# Altium footprint library MyCustomLib.PcbLib: 4 footprints
Each footprint in its own frame and in the unit in brackets; x right, y up, seen from the top. Pads: shape width x height; smd on the part's side, far side on the other; paste and mask are expansions set on the pad; w line width, h text height; cw(c..) or ccw(c..) is an arc to the next point about the centre after c.
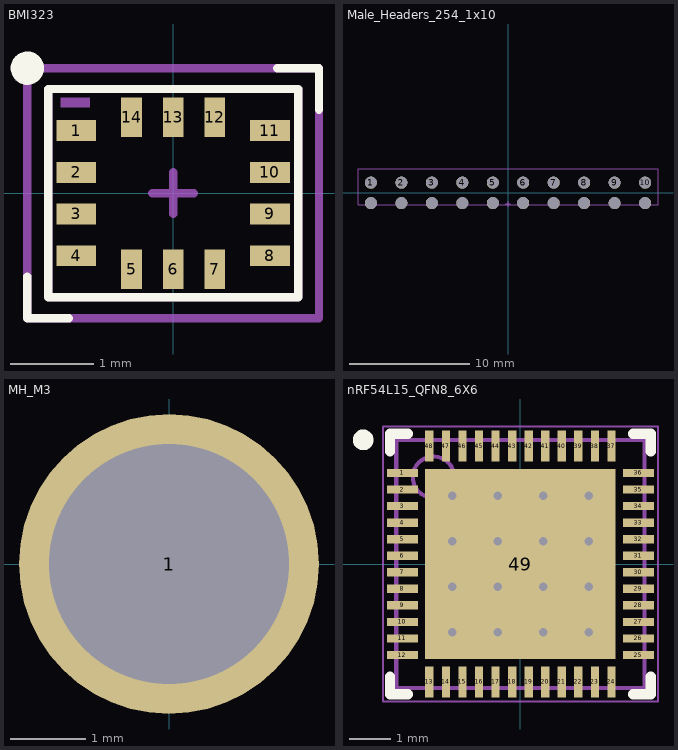
[diagram p0: the footprints below, top view; thin cyan lines are the x and y axes]

## BMI323 [mm]
pads (14):
  rect 0.475x0.25 smd: 1(-1.162,0.75) 2(-1.162,0.25) 3(-1.162,-0.25) 4(-1.162,-0.75) 8(1.162,-0.75) 9(1.162,-0.25) 10(1.162,0.25) 11(1.162,0.75)
  rect 0.25x0.475 smd: 5(-0.5,-0.913) 6(0,-0.913) 7(0.5,-0.913) 12(0.5,0.913) 13(0,0.913) 14(-0.5,0.913)
Top Overlay:
  circle w0.2: c-1.75,1.5 r0.1
  lines w0.1: -1.75,-1 -1.75,-1.5 -1.25,-1.5 ; 1.25,1.5 1.75,1.5 1.75,1 ; -1.5,-1.25 -1.5,1.25 1.5,1.25 1.5,-1.25 -1.5,-1.25
Top Assembly:
  rectangle: -1.35,1.025 -1,1.15
  lines w0.1: -1.5,-1.25 1.5,-1.25 1.5,1.25 -1.5,1.25 -1.5,-1.25
Top Courtyard:
  lines w0.1: -1.75,-1.5 1.75,-1.5 1.75,1.5 -1.75,1.5 -1.75,-1.5
Top Component Center:
  lines w0.1: -0.25,0 0.25,0 ; 0,-0.25 0,0.25
3D body "BMI323_BOS.step": height 0.87, standoff 0, extent -1.499,-1.194 1.499,1.194

## Male_Headers_254_1x10 [mm]
pads (20):
  round 1 hole 1: 1(-11.43,0.85) 2(-8.89,0.85) 3(-6.35,0.85) 4(-3.81,0.85) 5(-1.27,0.85) 6(1.27,0.85) 7(3.81,0.85) 8(6.35,0.85) 9(8.89,0.85) 10(11.43,0.85) ""(-11.43,-0.85) ""(-8.89,-0.85) ""(-6.35,-0.85) ""(-3.81,-0.85) ""(-1.27,-0.85) ""(1.27,-0.85) ""(3.81,-0.85) ""(6.35,-0.85) ""(8.89,-0.85) ""(11.43,-0.85)
Top Assembly:
  lines w0.1: -12.5,-1 12.5,-1 12.5,2 -12.5,2 -12.5,-1
Top Courtyard:
  lines w0.1: -12.5,-1 12.5,-1 12.5,2 -12.5,2 -12.5,-1
Top Component Center:
  lines w0.1: -0.229,-0.914 0.203,-0.914 ; 0,-1.168 0,-0.686
Multi-Layer:
  drawing of 10 lines, arcs and shapes, not listed

## MH_M3 [mm]
pads (1):
  round 4 hole 3.2: 1(0,0)

## nRF54L15_QFN8_6X6 [mm] "nRF54L15_QFN8_6X6, 48-Leads, Body 6,00x6,00mm, Pitch 0,40mm, Thermal Pad 4,60x4,60mm, IPC High Density"
height 0.9
pads (49):
  rect 0.75x0.2 smd: 1(-2.85,2.2) 2(-2.85,1.8) 3(-2.85,1.4) 4(-2.85,1) 5(-2.85,0.6) 6(-2.85,0.2) 7(-2.85,-0.2) 8(-2.85,-0.6) 9(-2.85,-1) 10(-2.85,-1.4) 11(-2.85,-1.8) 12(-2.85,-2.2) 25(2.85,-2.2) 26(2.85,-1.8) 27(2.85,-1.4) 28(2.85,-1) 29(2.85,-0.6) 30(2.85,-0.2) 31(2.85,0.2) 32(2.85,0.6) 33(2.85,1) 34(2.85,1.4) 35(2.85,1.8) 36(2.85,2.2)
  rect 0.2x0.75 smd: 13(-2.2,-2.85) 14(-1.8,-2.85) 15(-1.4,-2.85) 16(-1,-2.85) 17(-0.6,-2.85) 18(-0.2,-2.85) 19(0.2,-2.85) 20(0.6,-2.85) 21(1,-2.85) 22(1.4,-2.85) 23(1.8,-2.85) 24(2.2,-2.85) 37(2.2,2.85) 38(1.8,2.85) 39(1.4,2.85) 40(1,2.85) 41(0.6,2.85) 42(0.2,2.85) 43(-0.2,2.85) 44(-0.6,2.85) 45(-1,2.85) 46(-1.4,2.85) 47(-1.8,2.85) 48(-2.2,2.85)
  rect 4.6x4.6 smd: 49(0,0)
via 1.65,-1.65 diameter 0.5 hole 0.2
via 0.55,-1.65 diameter 0.5 hole 0.2
via -0.55,-1.65 diameter 0.5 hole 0.2
via -1.65,-1.65 diameter 0.5 hole 0.2
via 1.65,-0.55 diameter 0.5 hole 0.2
via 0.55,-0.55 diameter 0.5 hole 0.2
via -0.55,-0.55 diameter 0.5 hole 0.2
via -1.65,-0.55 diameter 0.5 hole 0.2
via 1.65,0.55 diameter 0.5 hole 0.2
via 0.55,0.55 diameter 0.5 hole 0.2
via -0.55,0.55 diameter 0.5 hole 0.2
via -1.65,0.55 diameter 0.5 hole 0.2
via 1.65,1.65 diameter 0.5 hole 0.2
via 0.55,1.65 diameter 0.5 hole 0.2
via -0.55,1.65 diameter 0.5 hole 0.2
via -1.65,1.65 diameter 0.5 hole 0.2
Top Overlay:
  circle w0.25: c-3.8,3 r0.125
  lines w0.25: -3.15,-2.725 -3.15,-3.15 -2.725,-3.15 ; -3.15,2.725 -3.15,3.15 -2.725,3.15 ; 2.725,-3.15 3.15,-3.15 3.15,-2.725 ; 2.725,3.15 3.15,3.15 3.15,2.725
Top Assembly:
  circle w0.1: c-2.1,2.1 r0.5
  lines w0.1: -3,-3 3,-3 3,3 -3,3 -3,-3
Top Courtyard:
  lines w0.05: -3.325,-3.325 3.325,-3.325 3.325,3.325 -3.325,3.325 -3.325,-3.325
  lines w0.1: -0.5,0 0.5,0 ; 0,-0.5 0,0.5
3D body "nRF54L15_QFN40P600X600X90_HS-49L.step": height 0.9, standoff 0, extent -3.04,-3.04 3.04,3.04